# EAGLE library part FPGA_GPIO_DE0 (library 0myLib)
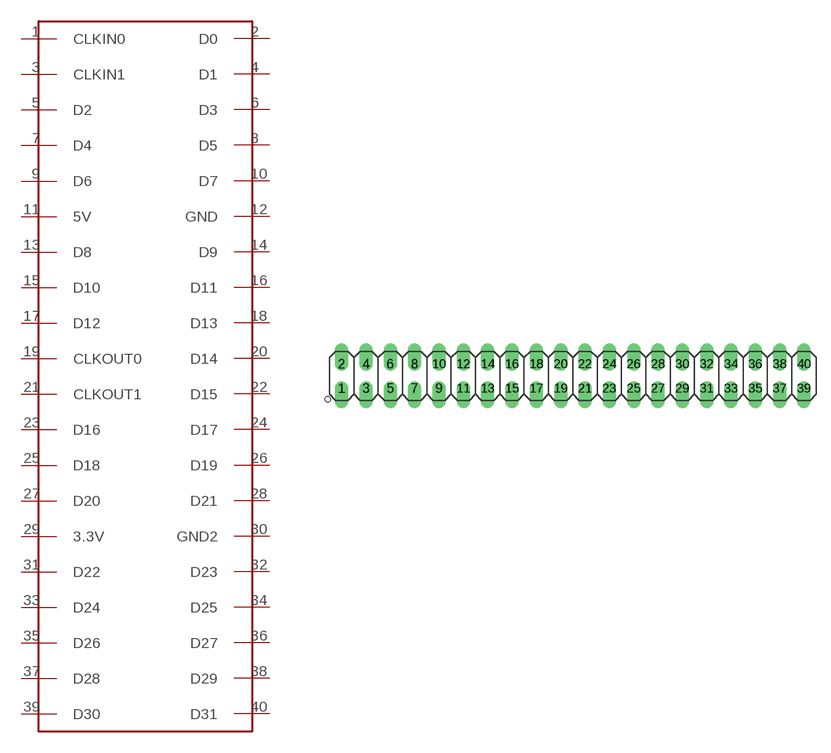
[diagram p50: symbol with the pads of 2X20; footprint 2X20]

Designator prefix -

## FPGA_GPIO_DE0  [2X20]
1  CLKIN0
2  D0
3  CLKIN1
4  D1
5  D2
6  D3
7  D4
8  D5
9  D6
10  D7
11  5V
12  GND
13  D8
14  D9
15  D10
16  D11
17  D12
18  D13
19  CLKOUT0
20  D14
21  CLKOUT1
22  D15
23  D16
24  D17
25  D18
26  D19
27  D20
28  D21
29  3.3V
30  GND2
31  D22
32  D23
33  D24
34  D25
35  D26
36  D27
37  D28
38  D29
39  D30
40  D31

## Footprint 2X20 (pad centres in mm)
PIN HEADER
drill 0.4 pad 1.422 offset: 1 -24.13,-1.27; 2 -24.13,1.27; 3 -21.59,-1.27; 4 -21.59,1.27; 5 -19.05,-1.27; 6 -19.05,1.27; 7 -16.51,-1.27; 8 -16.51,1.27; 9 -13.97,-1.27; 10 -13.97,1.27; 11 -11.43,-1.27; 12 -11.43,1.27; 13 -8.89,-1.27; 14 -8.89,1.27; 15 -6.35,-1.27; 16 -6.35,1.27; 17 -3.81,-1.27; 18 -3.81,1.27; 19 -1.27,-1.27; 20 -1.27,1.27; 21 1.27,-1.27; 22 1.27,1.27; 23 3.81,-1.27; 24 3.81,1.27; 25 6.35,-1.27; 26 6.35,1.27; 27 8.89,-1.27; 28 8.89,1.27; 29 11.43,-1.27; 30 11.43,1.27; 31 13.97,-1.27; 32 13.97,1.27; 33 16.51,-1.27; 34 16.51,1.27; 35 19.05,-1.27; 36 19.05,1.27; 37 21.59,-1.27; 38 21.59,1.27; 39 24.13,-1.27; 40 24.13,1.27